# Altium schematic symbol library MFR-25FTF52-600K.SchLib: 1 symbol
Pins are listed as number, name and electrical type; pins without a type are passive.

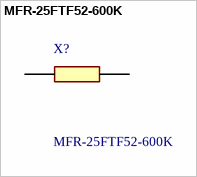
[diagram p0: symbol MFR-25FTF52-600K]

## MFR-25FTF52-600K
designator X?
Metal Film Resistors - Through Hole; Manufacturer_Name: YAGEO; Mouser Part Number: 603-MFR-25FTF52-600K; Mouser Price/Stock: https://www.mouser.co.uk/ProductDetail/YAGEO/MFR-25FTF52-600K?qs=xZ%2FP%252Ba9zWqYtTZdHR75SUg%3D%3D; Manufacturer_Part_Number: MFR-25FTF52-600K; Datasheet Link: https://www.mouser.sg/datasheet/2/447/YAGEO_MFR_datasheet_2023v3-3324391.pdf
footprint RESAD1590W60L630D240
pins: 1, 2